# EAGLE library part ISPGAL (library lattice)
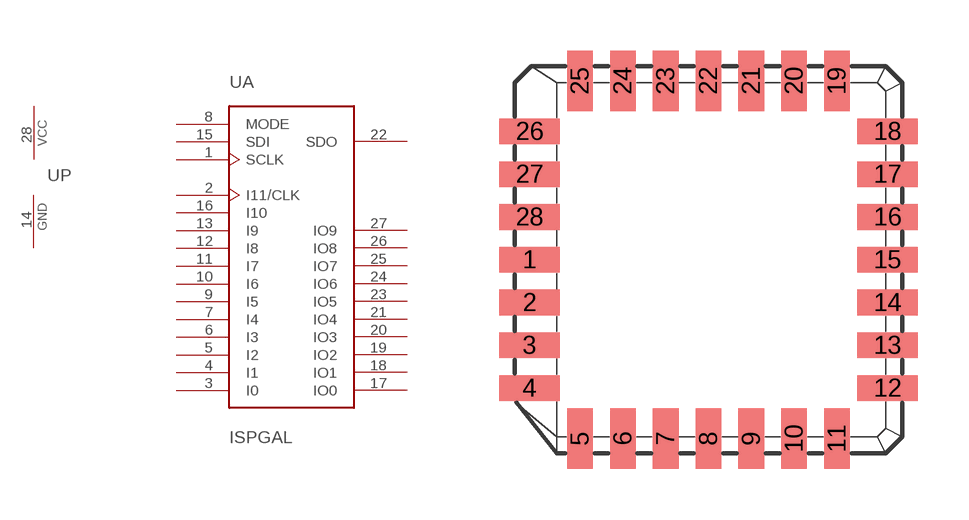
[diagram p4: symbol with the pads of PLCC-28; footprint PLCC-28]

Designator prefix U; gates A=ISPGAL P=PWRGND

## ISPGAL  [PLCC-28]
1  A:SCLK  in
2  A:I11/CLK  in
3  A:I0  in
4  A:I1  in
5  A:I2  in
6  A:I3  in
7  A:I4  in
8  A:MODE  in
9  A:I5  in
10  A:I6  in
11  A:I7  in
12  A:I8  in
13  A:I9  in
14  P:GND  pwr
15  A:SDI  in
16  A:I10  in
17  A:IO0
18  A:IO1
19  A:IO2
20  A:IO3
21  A:IO4
22  A:SDO  out
23  A:IO5
24  A:IO6
25  A:IO7
26  A:IO8
27  A:IO9
28  P:VCC  pwr

## Footprint PLCC-28 (pad centres in mm)
smd 1.803 x 0.762: 1 -5.309,0; 2 -5.309,-1.27; 3 -5.309,-2.54; 4 -5.309,-3.81; 12 5.309,-3.81; 13 5.309,-2.54; 14 5.309,-1.27; 15 5.309,0; 16 5.309,1.27; 17 5.309,2.54; 18 5.309,3.81; 26 -5.309,3.81; 27 -5.309,2.54; 28 -5.309,1.27
smd 0.762 x 1.803: 5 -3.81,-5.309; 6 -2.54,-5.309; 7 -1.27,-5.309; 8 0,-5.309; 9 1.27,-5.309; 10 2.54,-5.309; 11 3.81,-5.309; 19 3.81,5.309; 20 2.54,5.309; 21 1.27,5.309; 22 0,5.309; 23 -1.27,5.309; 24 -2.54,5.309; 25 -3.81,5.309